# Altium schematic symbol library IS43TR16256B-125KBL.SchLib: 2 symbols
Pins are listed as number, name and electrical type; pins without a type are passive.

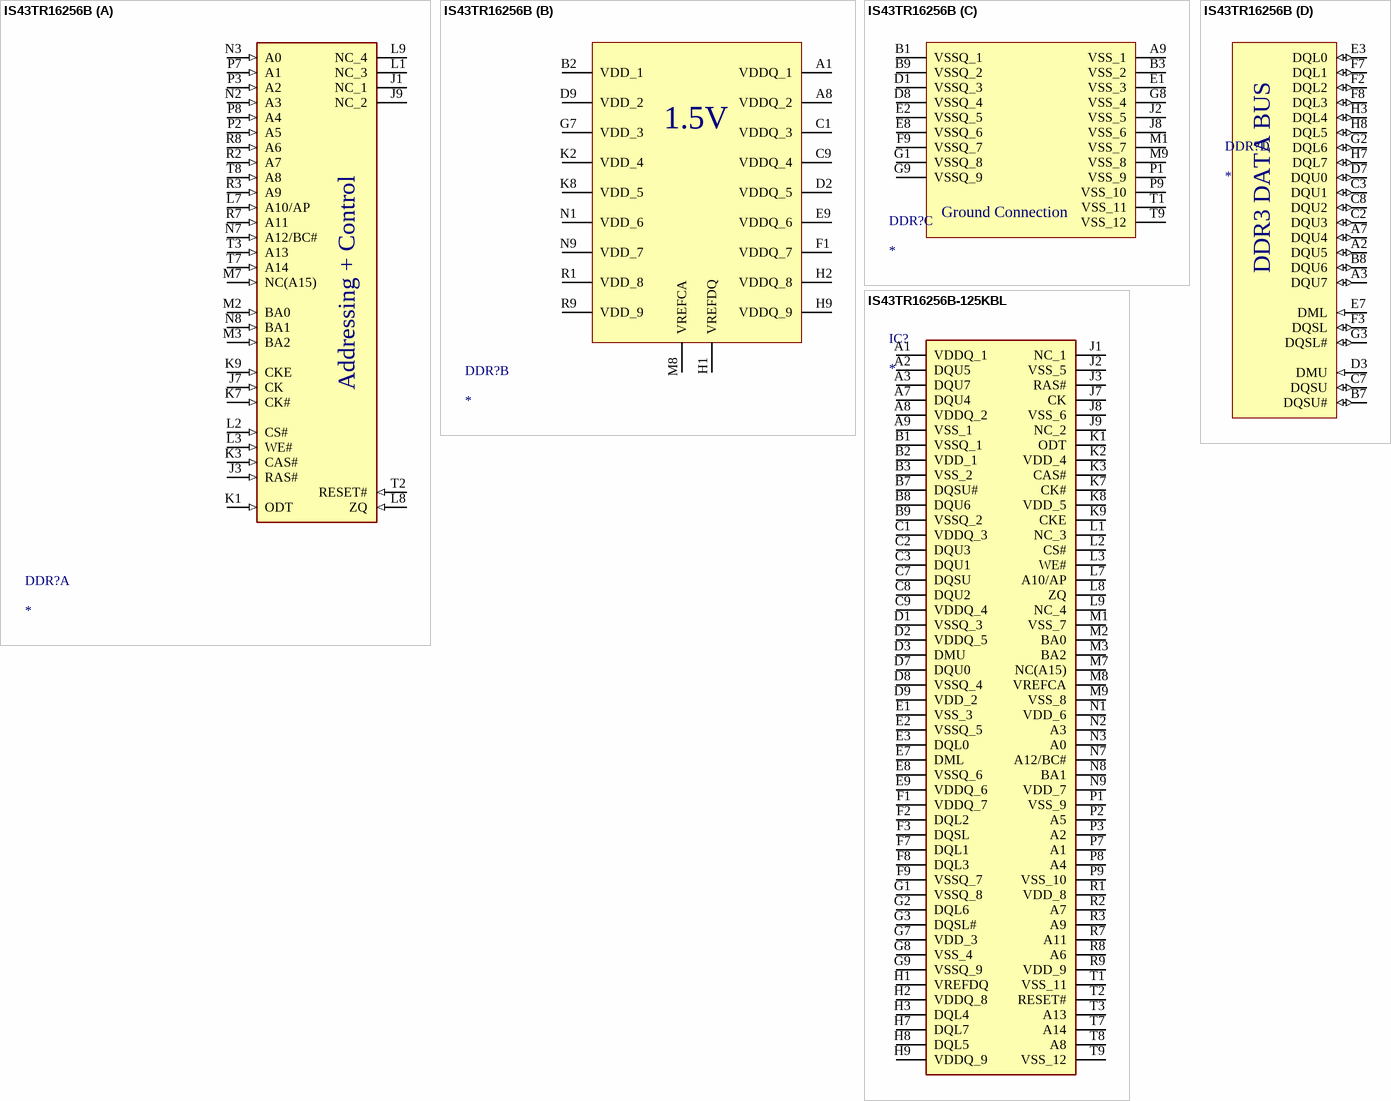
[diagram p0: symbols IS43TR16256B to IS43TR16256B-125KBL]

## IS43TR16256B
designator DDR?
Integrated Circuit; Manufacturer_Name: Integrated Silicon Solution Inc.; Manufacturer_Part_Number: IS43TR16256B-125KBL; Datasheet Link: https://componentsearchengine.com//IS43TR16256B-125KBL.pdf; Height: 1.2mm; Mouser2 Part Number: 870-43T16256B125KBL; Mouser2 Price/Stock: https://www.mouser.com/Search/Refine.aspx?Keyword=870-43T16256B125KBL
footprint BGA96C80P9X16_900X1300X120
footprint Model Name (Model Description)
part A pins: J1 NC_1 (hiz), J3 RAS# (in), J7 CK (in), J9 NC_2 (hiz), K1 ODT (in), K3 CAS# (in), K7 CK# (in), K9 CKE (in), L1 NC_3 (hiz), L2 CS# (in), L3 WE# (in), L7 A10/AP (in), L8 ZQ (in), L9 NC_4 (hiz), M2 BA0 (in), M3 BA2 (in), M7 NC(A15) (in), N2 A3 (in), N3 A0 (in), N7 A12/BC# (in), N8 BA1 (in), P2 A5 (in), P3 A2 (in), P7 A1 (in), P8 A4 (in), R2 A7 (in), R3 A9 (in), R7 A11 (in), R8 A6 (in), T2 RESET# (in), T3 A13 (in), T7 A14 (in), T8 A8 (in)
part B pins: A1 VDDQ_1 (power), A8 VDDQ_2 (power), B2 VDD_1 (power), C1 VDDQ_3 (power), C9 VDDQ_4 (power), D2 VDDQ_5 (power), D9 VDD_2 (power), E9 VDDQ_6 (power), F1 VDDQ_7 (power), G7 VDD_3 (power), H1 VREFDQ, H2 VDDQ_8 (power), H9 VDDQ_9 (power), K2 VDD_4 (power), K8 VDD_5 (power), M8 VREFCA, N1 VDD_6 (power), N9 VDD_7 (power), R1 VDD_8 (power), R9 VDD_9 (power)
part C pins: A9 VSS_1, B1 VSSQ_1, B3 VSS_2, B9 VSSQ_2, D1 VSSQ_3, D8 VSSQ_4, E1 VSS_3, E2 VSSQ_5, E8 VSSQ_6, F9 VSSQ_7, G1 VSSQ_8, G8 VSS_4, G9 VSSQ_9, J2 VSS_5, J8 VSS_6, M1 VSS_7, M9 VSS_8, P1 VSS_9, P9 VSS_10, T1 VSS_11, T9 VSS_12
part D pins: A2 DQU5 (io), A3 DQU7 (io), A7 DQU4 (io), B7 DQSU# (io), B8 DQU6 (io), C2 DQU3 (io), C3 DQU1 (io), C7 DQSU (io), C8 DQU2 (io), D3 DMU (in), D7 DQU0 (io), E3 DQL0 (io), E7 DML (in), F2 DQL2 (io), F3 DQSL (io), F7 DQL1 (io), F8 DQL3 (io), G2 DQL6 (io), G3 DQSL# (io), H3 DQL4 (io), H7 DQL7 (io), H8 DQL5 (io)
part A text: Addressing + Control
part B text: 1.5V
part C text: Ground Connection
part D text: DDR3 DATA BUS

## IS43TR16256B-125KBL
designator IC?
Integrated Circuit; Manufacturer_Name: Integrated Silicon Solution Inc.; Manufacturer_Part_Number: IS43TR16256B-125KBL; Datasheet Link: https://componentsearchengine.com//IS43TR16256B-125KBL.pdf; Height: 1.2mm; Mouser2 Part Number: 870-43T16256B125KBL; Mouser2 Price/Stock: https://www.mouser.com/Search/Refine.aspx?Keyword=870-43T16256B125KBL
footprint BGA96C80P9X16_900X1300X120
pins: A1 VDDQ_1, A2 DQU5, A3 DQU7, A7 DQU4, A8 VDDQ_2, A9 VSS_1, B1 VSSQ_1, B2 VDD_1, B3 VSS_2, B7 DQSU#, B8 DQU6, B9 VSSQ_2, C1 VDDQ_3, C2 DQU3, C3 DQU1, C7 DQSU, C8 DQU2, C9 VDDQ_4, D1 VSSQ_3, D2 VDDQ_5, D3 DMU, D7 DQU0, D8 VSSQ_4, D9 VDD_2, E1 VSS_3, E2 VSSQ_5, E3 DQL0, E7 DML, E8 VSSQ_6, E9 VDDQ_6, F1 VDDQ_7, F2 DQL2, F3 DQSL, F7 DQL1, F8 DQL3, F9 VSSQ_7, G1 VSSQ_8, G2 DQL6, G3 DQSL#, G7 VDD_3, G8 VSS_4, G9 VSSQ_9, H1 VREFDQ, H2 VDDQ_8, H3 DQL4, H7 DQL7, H8 DQL5, H9 VDDQ_9, J1 NC_1, J2 VSS_5, J3 RAS#, J7 CK, J8 VSS_6, J9 NC_2, K1 ODT, K2 VDD_4, K3 CAS#, K7 CK#, K8 VDD_5, K9 CKE, L1 NC_3, L2 CS#, L3 WE#, L7 A10/AP, L8 ZQ, L9 NC_4, M1 VSS_7, M2 BA0, M3 BA2, M7 NC(A15), M8 VREFCA, M9 VSS_8, N1 VDD_6, N2 A3, N3 A0, N7 A12/BC#, N8 BA1, N9 VDD_7, P1 VSS_9, P2 A5, P3 A2, P7 A1, P8 A4, P9 VSS_10, R1 VDD_8, R2 A7, R3 A9, R7 A11, R8 A6, R9 VDD_9, T1 VSS_11, T2 RESET#, T3 A13, T7 A14, T8 A8, T9 VSS_12